# Altium schematic symbol library LVDS1.SchLib: 1 symbol
Pins are listed as number, name and electrical type; pins without a type are passive.

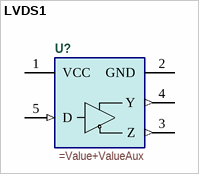
[diagram p0: symbol LVDS1]

## LVDS1
designator U?
=Description
pins: 1 VCC (power), 2 GND (power), 3 Z (out), 4 Y (out), 5 D (in)